# Altium integrated library Pinhead.IntLib: 1 symbol
Pins are listed as number, name and electrical type; pins without a type are passive.

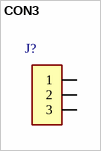
[diagram p0: symbol CON3]

## CON3
designator J?
footprint 3PIN
footprint 3HDR
pins: 1, 2, 3